# Altium schematic symbol library Энкодеры.SchLib: 1 symbol
Pins are listed as number, name and electrical type; pins without a type are passive.

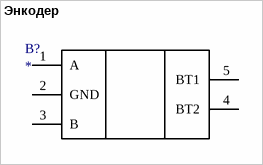
[diagram p0: symbol Энкодер]

## Энкодер
designator B?
Help: Преобразователь механической величины в электрическую.маркируется Bx
pins: 1 A, 2 GND, 3 B, 4 BT2, 5 BT1